# EAGLE library part IC_DCDC_MAX662 (library mylib_20130829)
SUPPLY CHARGE PUMP
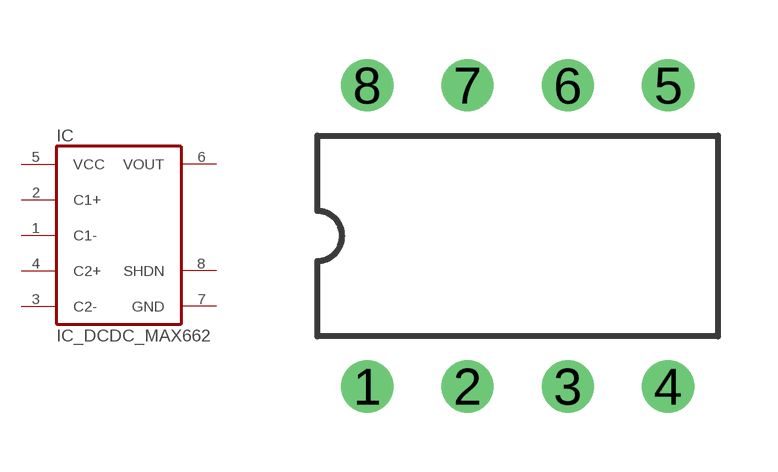
[diagram p57: symbol with the pads of IC_SOCKET_DIL_08; footprint IC_SOCKET_DIL_08]

Designator prefix IC

## IC_DCDC_MAX662_DIP  [IC_SOCKET_DIL_08]
1  C1-  pas
2  C1+  pas
3  C2-  pas
4  C2+  pas
5  VCC  pwr
6  VOUT  sup
7  GND  pwr
8  SHDN  in

## Footprint IC_SOCKET_DIL_08 (pad centres in mm)
Dual In Line package type P
drill 0.813: 1 -3.81,-3.81; 2 -1.27,-3.81; 3 1.27,-3.81; 4 3.81,-3.81; 5 3.81,3.81; 6 1.27,3.81; 7 -1.27,3.81; 8 -3.81,3.81